# Altium schematic symbol library Schlib.SchLib: 2 symbols
Pins are listed as number, name and electrical type; pins without a type are passive.

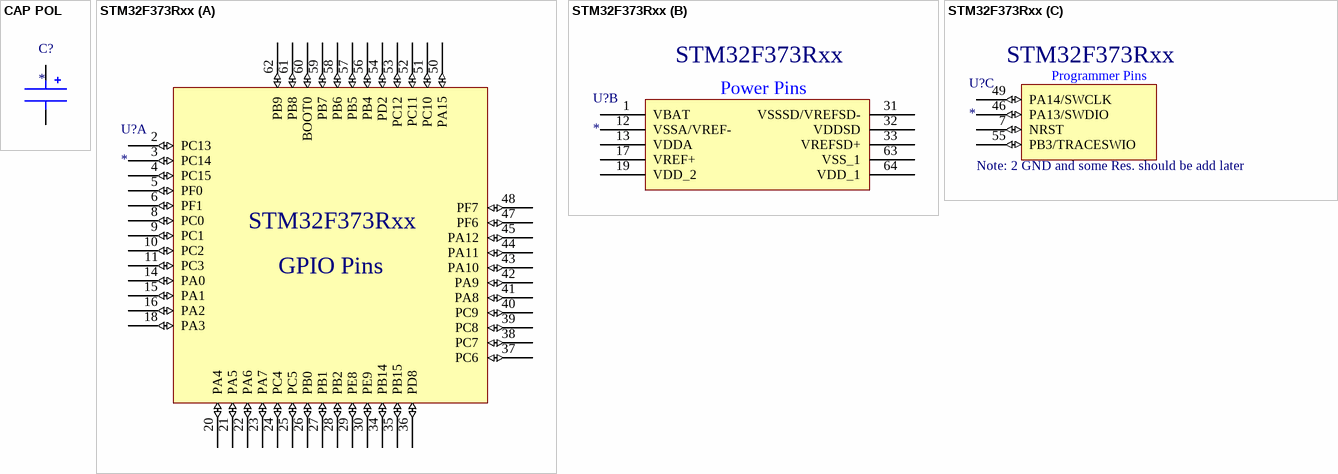
[diagram p0: symbols CAP POL to STM32F373Rxx]

## CAP POL
designator C?
footprint CC1206 (MLCC 1206)
pins: 1 C, 2 C

## STM32F373Rxx
designator U?
footprint LQFP64-10x10mm
part A pins: 2 PC13 (io) "-", 3 PC14 (io) "-", 4 PC15 (io) "-", 5 PF0 (io) "I2C2_SDA", 6 PF1 (io) "I2C2_SCL", 8 PC0 (io) "TIM5_CH1_ETR", 9 PC1 (io) "TIM5_CH2", 10 PC2 (io) "SPI2_MISO/I2S2_MCK, TIM5_CH3", 11 PC3 (io) "SPI2_MOSI/I2S2_SD, TIM5_CH4", 14 PA0 (io) "USART2_CTS, TIM2_CH1_ETR, TIM5_CH1_ETR, TIM19_CH1, TSC_G1_IO1, COMP1_OUT", 15 PA1 (io) "SPI3_SCK/I2S3_CK, USART2_RTS, TIM2_CH2, TIM15_CH1N, TIM5_CH2, TIM19_CH2, TSC_G1_IO2,", 16 PA2 (io) "COMP2_OUT, SPI3_MISO/I2S3_MCK, USART2_TX, TIM2_CH3, TIM15_CH1, TIM5_CH3, TIM19_CH3, TSC_G1_IO3", 18 PA3 (io) "SPI3_MOSI/I2S3_SD, USART2_RX, TIM2_CH4, TIM15_CH2, TIM5_CH4, TIM19_CH4, TSC_G1_IO4", 20 PA4 (io) "SPI1_NSS/I2S1_WS, SPI3_NSS/I2S3_WS, USART2_CK, TIM3_CH2, TIM12_CH1, TSC_G2_IO1,", 21 PA5 (io) "SPI1_SCK/I2S1_CK, CEC, TIM2_CH1_ETR, TIM14_CH1, TIM12_CH2, TSC_G2_IO2", 22 PA6 (io) "SPI1_MISO/I2S1_MCK, COMP1_OUT, TIM3_CH1, TIM13_CH1, TIM16_CH1, TSC_G2_IO3", 23 PA7 (io) "TSC_G2_IO4, TIM14_CH1, SPI1_MOSI/I2S1_SD, TIM17_CH1, TIM3_CH2, COMP2_OUT", 24 PC4 (io) "TIM13_CH1, TSC_G3_IO1, USART1_TX", 25 PC5 (io) "TSC_G3_IO2, USART1_RX", 26 PB0 (io) "SPI1_MOSI/I2S1_SD, TIM3_CH3, TSC_G3_IO3, TIM3_CH2", 27 PB1 (io) "TIM3_CH4, TSC_G3_IO4", 28 PB2 (io) "-", 29 PE8 (io) "-", 30 PE9 (io) "-", 34 PB14 (io) "SPI2_MISO/I2S2_MCK, USART3_RTS, TIM15_CH1, TIM12_CH1, TSC_G6_IO1", 35 PB15 (io) "SPI2_MOSI/I2S2_SD, TIM15_CH1N, TIM15_CH2, TIM12_CH2, TSC_G6_IO2", 36 PD8 (io) "SPI2_SCK/I2S2_CK, USART3_TX, TSC_G6_IO3", 37 PC6 (io) "TIM3_CH1, SPI1_NSS/I2S1_WS", 38 PC7 (io) "TIM3_CH2, SPI1_SCK/I2S1_CK,", 39 PC8 (io) "SPI1_MISO/I2S1_MCK, TIM3_CH3", 40 PC9 (io) "SPI1_MOSI/I2S1_SD, TIM3_CH4", 41 PA8 (io) "SPI2_SCK/I2S2_CK, I2C2_SMBA, USART1_CK, TIM4_ETR, TIM5_CH1_ETR, MCO", 42 PA9 (io) "SPI2_MISO/I2S2_MCK, I2C2_SCL, USART1_TX, TIM2_CH3, TIM15_BKIN, TIM13_CH1, TSC_G4_IO1", 43 PA10 (io) "SPI2_MOSI/I2S2_SD, I2C2_SDA, USART1_RX, TIM2_CH4, TIM17_BKIN, TIM14_CH1, TSC_G4_IO2", 44 PA11 (io) "SPI2_NSS/I2S2_WS, SPI1_NSS/I2S1_WS, USART1_CTS, CAN_RX, TIM4_CH1, USB_DM, TIM5_CH2, COMP1_OUT", 45 PA12 (io) "SPI1_SCK/I2S1_CK, USART1_RTS, CAN_TX, USB_DP, TIM16_CH1, TIM4_CH2, TIM5_CH3, COMP2_OUT", 47 PF6 (io) "SPI1_MOSI/I2S1_SD, USART3_RTS, TIM4_CH4, I2C2_SCL", 48 PF7 (io) "I2C2_SDA, USART2_CK", 50 PA15 (io) "SPI1_NSS/I2S1_WS, SPI3_NSS/I2S3_WS, I2C1_SCL, TIM2_CH1_ETR, TIM12_CH2, TSC_SYNC, JTDI", 51 PC10 (io) "SPI3_SCK/I2S3_CK, USART3_TX, TIM19_CH1", 52 PC11 (io) "SPI3_MISO/I2S3_MCK, USART3_RX, TIM19_CH2", 53 PC12 (io) "SPI3_MOSI/I2S3_SD, USART3_CK, TIM19_CH3", 54 PD2 (io) "TIM3_ETR", 56 PB4 (io) "SPI1_MISO/I2S1_MCK, SPI3_MISO/I2S3_MCK, USART2_RX, TIM16_CH1, TIM3_CH1, TIM17_BKIN, TIM15_CH1N, TSC_G5_IO2, JNTRST", 57 PB5 (io) "SPI1_MOSI/I2S1_SD, SPI3_MOSI/I2S3_SD, I2C1_SMBAl, USART2_CK, TIM16_BKIN, TIM3_CH2, TIM17_CH1, TIM19_ETR", 58 PB6 (io) "I2C1_SCL, USART1_TX, TIM16_CH1N, TIM3_CH3, TIM4_CH1, TIM19_CH1, TIM15_CH1, TSC_G5_IO3", 59 PB7 (io) "I2C1_SDA, USART1_RX, TIM17_CH1N, TIM3_CH4, TIM4_CH2, TIM19_CH2, TIM15_CH2, TSC_G5_IO4", 60 BOOT0 (io) "Boot memory selection", 61 PB8 (io) "SPI2_SCK/I2S2_CK, I2C1_SCL, USART3_TX, CAN_RX, CEC, TIM16_CH1, TIM4_CH3, TIM19_CH3, COMP1_OUT, TSC_SYNC", 62 PB9 (io) "SPI2_NSS/I2S2_WS, I2C1_SDA, USART3_RX, CAN_TX, IR_OUT, TIM17_CH1, TIM4_CH4, TIM19_CH4, COMP2_OUT"
part B pins: 1 VBAT (power), 12 VSSA/VREF- (power), 13 VDDA (power), 17 VREF+ (power), 19 VDD_2 (power), 31 VSSSD/VREFSD- (power), 32 VDDSD (power), 33 VREFSD+ (power), 63 VSS_1 (power), 64 VDD_1 (power)
part C pins: 7 NRST (io) "Device reset input / internal reset output (active low)", 46 PA13/SWDIO (io) "SPI1_MISO/I2S1_MCK, USART3_CTS, IR_OUT, TIM16_CH1N, TIM4_CH3, TIM5_CH4, TSC_G4_IO3, SWDIO-JTMS", 49 PA14/SWCLK (io) "I2C1_SDA, _TIM12CH1, TSC_G4_IO4, SWCLK-JTCK", 55 PB3/TRACESWIO (io) "SPI1_SCK/I2S1_CK, SPI3_SCK/I2S3_CK, USART2_TX, TIM2_CH2, TIM3_ETR, TIM4_ETR, TIM13_CH1, TSC_G5_IO1, JTDO-TRACESWO"
part A text: GPIO Pins
part B text: Power Pins
part C text: Programmer Pins; Note: 2 GND and some Res. should be add later